# EAGLE library part CONECTOR10POTES (library Kilomux)
Header 5x2 Standard 10-pin dual row 0.1" header. Commonly used with AVR-ISP. Use with Spark Fun Electronics SKU: PRT-00778
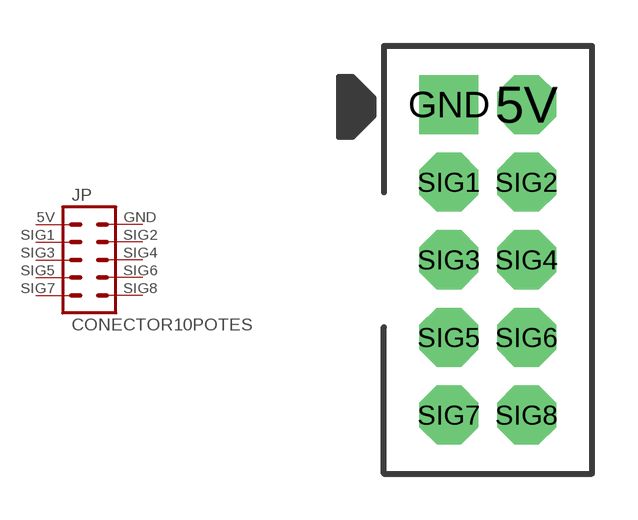
[diagram p3: symbol with the pads of HEADER-2X3-MALE-POTES; footprint HEADER-2X3-MALE-POTES]

Designator prefix JP

## CONECTOR10POTESSHD  [HEADER-2X3-MALE-POTES]
5V  5V  pas
GND  GND  pas
SIG1  SIG1  pas
SIG2  SIG2  pas
SIG3  SIG3  pas
SIG4  SIG4  pas
SIG5  SIG5  pas
SIG6  SIG6  pas
SIG7  SIG7  pas
SIG8  SIG8  pas

## Footprint HEADER-2X3-MALE-POTES (pad centres in mm)
drill 1 pad 1.93 octagon: 5V 1.27,5.08; SIG1 -1.27,2.54; SIG2 1.27,2.54; SIG3 -1.27,0; SIG4 1.27,0; SIG5 -1.27,-2.54; SIG6 1.27,-2.54; SIG7 -1.27,-5.08; SIG8 1.27,-5.08
drill 1 pad 1.93 square: GND -1.27,5.08